# EAGLE library part R41Z (library R41Z)
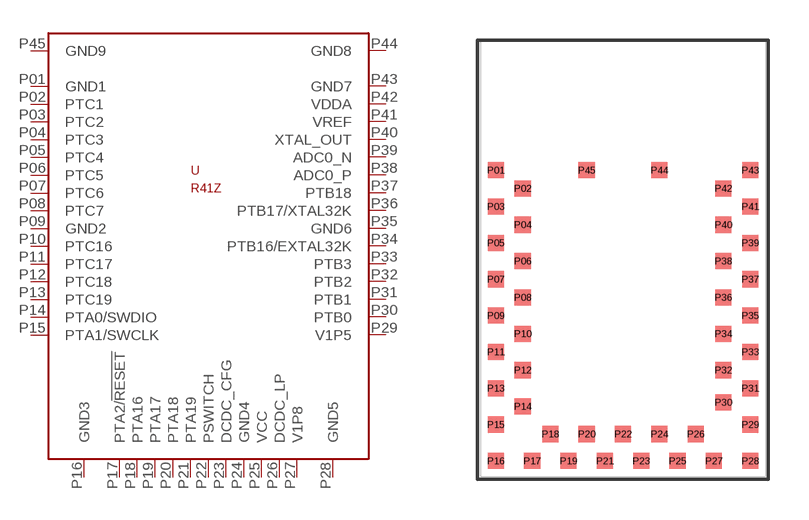
[diagram p0: symbol with the pads of R41Z; footprint R41Z]

Designator prefix U

## R41Z-T  [R41Z]
P01  GND1
P02  PTC1
P03  PTC2
P04  PTC3
P05  PTC4
P06  PTC5
P07  PTC6
P08  PTC7
P09  GND2
P10  PTC16
P11  PTC17
P12  PTC18
P13  PTC19
P14  PTA0/SWDIO
P15  PTA1/SWCLK
P16  GND3
P17  PTA2/!RESET!
P18  PTA16
P19  PTA17
P20  PTA18
P21  PTA19
P22  PSWITCH
P23  DCDC_CFG
P24  GND4
P25  VCC
P26  DCDC_LP
P27  V1P8
P28  GND5
P29  V1P5
P30  PTB0
P31  PTB1
P32  PTB2
P33  PTB3
P34  PTB16/EXTAL32K
P35  GND6
P36  PTB17/XTAL32K
P37  PTB18
P38  ADC0_P
P39  ADC0_N
P40  XTAL_OUT
P41  VREF
P42  VDDA
P43  GND7
P44  GND8
P45  GND9

## Footprint R41Z (pad centres in mm)
smd 0.6 x 0.6: P01 -4.725,3.275; P02 -3.725,2.6; P03 -4.725,1.925; P04 -3.725,1.25; P05 -4.725,0.575; P06 -3.725,-0.1; P07 -4.725,-0.775; P08 -3.725,-1.45; P09 -4.725,-2.125; P10 -3.725,-2.8; P11 -4.725,-3.475; P12 -3.725,-4.15; P13 -4.725,-4.825; P14 -3.725,-5.5; P15 -4.725,-6.175; P16 -4.725,-7.525; P17 -3.375,-7.525; P18 -2.7,-6.525; P19 -2.025,-7.525; P20 -1.35,-6.525; P21 -0.675,-7.525; P22 0,-6.525; P23 0.675,-7.525; P24 1.35,-6.525; P25 2.025,-7.525; P26 2.7,-6.525; P27 3.375,-7.525; P28 4.725,-7.525; P29 4.725,-6.175; P30 3.725,-5.35; P31 4.725,-4.825; P32 3.725,-4.15; P33 4.725,-3.475; P34 3.725,-2.8; P35 4.725,-2.125; P36 3.725,-1.45; P37 4.725,-0.775; P38 3.725,-0.1; P39 4.725,0.575; P40 3.725,1.25; P41 4.725,1.925; P42 3.725,2.6; P43 4.725,3.275; P44 1.35,3.275; P45 -1.35,3.275